# Altium schematic symbol library MCP4561-103EMS.SchLib: 1 symbol
Pins are listed as number, name and electrical type; pins without a type are passive.

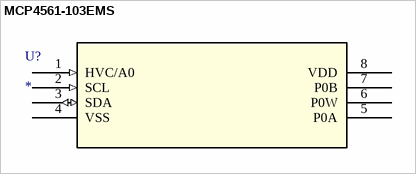
[diagram p0: symbol MCP4561-103EMS]

## MCP4561-103EMS
designator U?
No Description Available; Mfr_Name: Microchip; RefDes: RefDes; Type: Type; Supplier 1: Mouser; Supplier Part Number 1: 579-MCP4561-103E/MS
footprint MSOP8_MC_MCH
pins: 1 HVC/A0 (in), 2 SCL (in), 3 SDA (io), 4 VSS (power), 5 P0A, 6 P0W, 7 P0B, 8 VDD (power)